# EAGLE library part 2MM-EDGE (library meas)
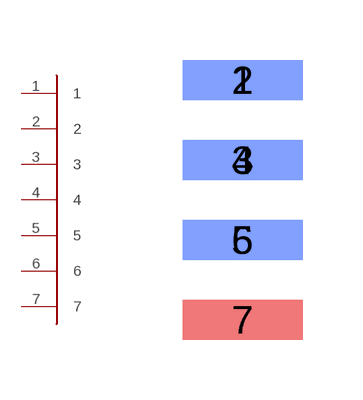
[diagram p1: symbol with the pads of 2MM-EDGE; footprint 2MM-EDGE]

Designator prefix -

## 2MM-EDGE  [2MM-EDGE]
1  1
2  2
3  3
4  4
5  5
6  6
7  7

## Footprint 2MM-EDGE (pad centres in mm)
smd 3 x 1: 1 0,3; 3 0,1; 5 0,-1; 7 0,-3
smd 3 x 1 bottom: 2 0,3; 4 0,1; 6 0,-1